# Altium schematic symbol library 2SC4713K.Schlib: 1 symbol
Pins are listed as number, name and electrical type; pins without a type are passive.

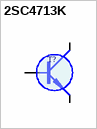
[diagram p0: symbol 2SC4713K]

## 2SC4713K
designator T?
SOT23       6V 50mA     800MHZ 1p
pins: 1 B, 2 E (oe), 3 C (oc)
1 alternate drawing of the same symbol